# Altium schematic symbol library C_100uF_490-10510-1-ND.SchLib: 1 symbol
Pins are listed as number, name and electrical type; pins without a type are passive.

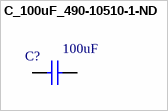
[diagram p0: symbol C_100uF_490-10510-1-ND]

## C_100uF_490-10510-1-ND
designator C?  (value not drawn)
footprint JIS2012_EIA0805_GRM21BB31E475K (Chip Capacitor, 2-Leads, Body 2.00x1.25mm, IPC Medium Density)
pins: 1, 2
text: 100uF